# Altium footprint library LNA_1.7GHz.PcbLib: 27 footprints (part 1 of 2)
Each footprint in its own frame and in the unit in brackets; x right, y up, seen from the top. Pads: shape width x height; smd on the part's side, far side on the other; paste and mask are expansions set on the pad; w line width, h text height; cw(c..) or ccw(c..) is an arc to the next point about the centre after c.
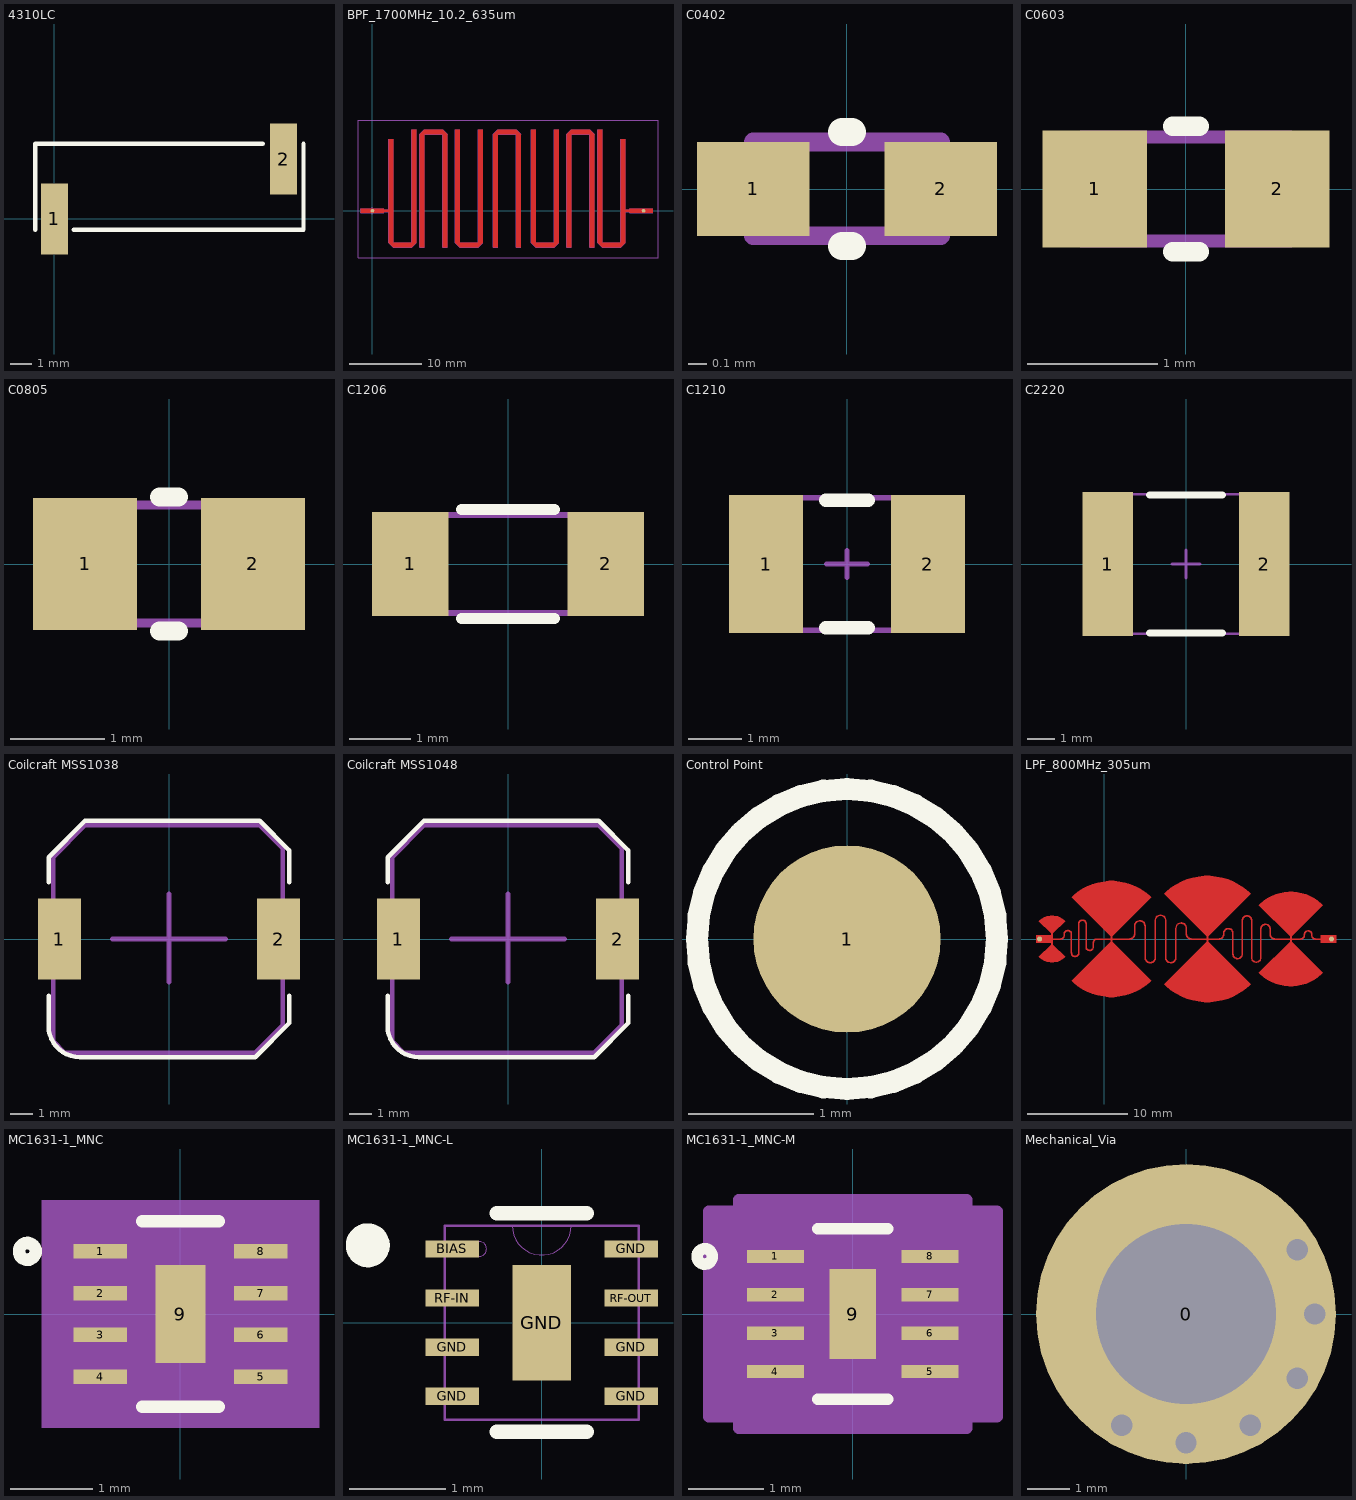
[diagram p0: the footprints below, top view; thin cyan lines are the x and y axes]

## 4310LC [mm] "Coilcraft"
height 3
pads (2):
  rect 1.27x3.3 smd: 1(0,0) 2(10.67,2.79)
Top Overlay:
  lines w0.2: -0.9,-0.5 -0.9,3.5 9.7,3.5 ; 0.9,-0.5 11.6,-0.5 11.6,3.5
3D body "Coilcraft-4310LC-XXX.STEP": height 3.39, standoff 0.01, extent -0.343,-1.1 10.943,3.98

## BPF_1700MHz_10.2_635um [mm] "stripline LPF"
pads (2):
  round 0.5 smd: 1(0,0) 2(37.5,0)
Top Layer:
  region: 35.622,-0.299 35.622,0.299 38.797,0.299 38.797,-0.299
  region: 34.346,-5.085 34.347,-5.085 34.982,-4.45 34.982,-0.16 35.621,-0.16 35.621,0.16 34.982,0.16 34.982,9.868 34.347,9.868 34.346,9.868
  region: 31.172,-4.45 31.807,-5.085 34.347,-5.085 34.982,-4.45
  region: 31.172,-4.45 31.807,-5.085 31.807,11.185 31.172,11.185
  region: 26.858,-5.085 26.859,-5.085 27.494,-5.085 27.494,10.55 30.033,10.55 30.033,-5.085 30.034,-5.085 30.669,-5.085 30.669,10.55 30.034,11.185 27.494,11.185 27.493,11.185 26.858,10.55
  region: 25.125,-5.085 25.125,11.185 25.76,11.185 25.76,-4.45
  region: 21.95,-4.45 22.585,-5.085 25.125,-5.085 25.76,-4.45
  region: 21.95,-4.45 21.95,11.185 22.585,11.185 22.585,-5.085
  region: 16.699,-5.085 16.7,-5.085 17.335,-5.085 17.335,10.55 19.874,10.55 19.874,-5.085 19.875,-5.085 20.51,-5.085 20.51,10.55 19.875,11.185 17.335,11.185 17.334,11.185 16.699,10.55
  region: 14.625,-5.085 14.625,11.185 15.26,11.185 15.26,-4.45
  region: 11.45,-4.45 12.085,-5.085 14.625,-5.085 15.26,-4.45
  region: 11.45,-4.45 11.45,11.185 12.085,11.185 12.085,-5.085
  region: 6.54,-5.085 6.541,-5.085 7.176,-5.085 7.176,10.55 9.715,10.55 9.715,-5.085 9.716,-5.085 10.351,-5.085 10.351,10.55 9.716,11.185 7.176,11.185 7.175,11.185 6.54,10.55
  region: 1.588,-0.16 2.227,-0.16 2.227,-4.45 2.862,-5.085 2.863,-5.085 5.402,-5.085 5.403,-5.085 6.038,-4.45 6.038,11.185 6.037,11.185 6.038,11.185 5.402,11.185 5.402,-4.45 2.863,-4.45 2.863,9.867 2.863,9.868 2.862,9.868 2.863,9.868 2.227,9.868 2.227,9.867 2.227,9.868 2.227,0.16 1.588,0.16
  region: -1.587,-0.299 -1.587,0.299 1.587,0.299 1.587,-0.299
Top Solder:
  region: 0,-5.5 0,11.5 0,11.598 0.038,11.792 0.114,11.974 0.223,12.137 0.363,12.277 0.526,12.386 0.708,12.462 0.902,12.5 1,12.5 36.5,12.5 36.598,12.5 36.792,12.462 36.974,12.386 37.137,12.277 37.277,12.137 37.386,11.974 37.462,11.792 37.5,11.598 37.5,11.5 37.5,-5.5 37.5,-5.598 37.462,-5.792 37.386,-5.974 37.277,-6.137 37.137,-6.277 36.974,-6.386 36.792,-6.462 36.598,-6.5 36.5,-6.5 1,-6.5 0.902,-6.5 0.708,-6.462 0.526,-6.386 0.363,-6.277 0.223,-6.137 0.114,-5.974 0.038,-5.792 0,-5.599
Mechanical 13:
  lines w0: 1.587,-0.16 2.863,-0.16 ; 1.587,0.16 2.863,0.16 ; 2.228,-0.16 2.228,-4.45 ; 2.228,0.16 2.228,9.868 2.863,9.868 2.863,-5.085 ; 5.403,10.55 6.038,10.55 ; 6.541,-4.45 7.176,-4.45 ; 9.716,-4.45 10.351,-4.45 ; 11.45,10.55 12.085,10.55 ; 14.625,10.55 15.26,10.55 ; 16.7,-4.45 17.335,-4.45 ; 19.875,-4.45 20.51,-4.45 ; 21.95,10.55 22.585,10.55 ; 25.125,10.55 25.76,10.55 ; 26.859,-4.45 27.494,-4.45 ; 30.034,-4.45 30.669,-4.45 ; 31.172,10.55 31.807,10.55 ; 34.347,-0.16 35.622,-0.16 ; 34.347,0.16 35.622,0.16 ; 34.982,-0.16 34.982,-4.45 ; 34.982,0.16 34.982,9.868 34.347,9.868 34.347,-5.085 ; 2.228,-4.45 6.038,-4.45 ; 2.228,-4.45 2.863,-5.085 ; 2.863,-5.085 5.403,-5.085 ; 5.403,-5.085 6.038,-4.45 ; 5.403,-5.085 5.403,11.185 6.038,11.185 6.038,-4.45 ; 6.541,10.55 6.541,-5.085 7.176,-5.085 7.176,11.185 ; 6.541,10.55 7.176,11.185 ; 6.541,10.55 10.351,10.55 ; 7.176,11.185 9.716,11.185 ; 9.716,11.185 9.716,-5.085 10.351,-5.085 10.351,10.55 ; 9.716,11.185 10.351,10.55 ; 11.45,-4.45 12.085,-5.085 ; 11.45,-4.45 15.26,-4.45 ; 11.45,-4.45 11.45,11.185 12.085,11.185 12.085,-5.085 ; 12.085,-5.085 14.625,-5.085 ; 14.625,-5.085 15.26,-4.45 ; 14.625,-5.085 14.625,11.185 15.26,11.185 15.26,-4.45 ; 16.7,10.55 16.7,-5.085 17.335,-5.085 17.335,11.185 ; 16.7,10.55 17.335,11.185 ; 16.7,10.55 20.51,10.55 ; 17.335,11.185 19.875,11.185 ; 19.875,11.185 20.51,10.55 ; 19.875,11.185 19.875,-5.085 20.51,-5.085 20.51,10.55 ; 21.95,-4.45 22.585,-5.085 ; 21.95,-4.45 25.76,-4.45 ; 21.95,-4.45 21.95,11.185 22.585,11.185 22.585,-5.085 ; 22.585,-5.085 25.125,-5.085 ; 25.125,-5.085 25.76,-4.45 ; 25.125,-5.085 25.125,11.185 25.76,11.185 25.76,-4.45 ; 26.859,10.55 26.859,-5.085 27.494,-5.085 27.494,11.185 ; 26.859,10.55 27.494,11.185 ; 26.859,10.55 30.669,10.55 ; 27.494,11.185 30.034,11.185 ; 30.034,11.185 30.034,-5.085 30.669,-5.085 30.669,10.55 ; 30.034,11.185 30.669,10.55 ; 31.172,-4.45 31.807,-5.085 ; 31.172,-4.45 34.982,-4.45 ; 31.172,-4.45 31.172,11.185 31.807,11.185 31.807,-5.085 ; 31.807,-5.085 34.347,-5.085 ; 34.347,-5.085 34.982,-4.45 ; -1.587,-0.299 -1.587,0.299 1.587,0.299 1.587,-0.299 -1.587,-0.299 ; 35.622,-0.299 38.797,-0.299 38.797,0.299 35.622,0.299 35.622,-0.299
Mechanical 15:
  lines w0.1: -2,-6.5 39.5,-6.5 39.5,12.5 -2,12.5 -2,-6.5
  lines w0.15: -0.75,0 0.75,0 ; 0,-0.5 0,0.5

## C0402 [mm] "Chip Capacitor, Body 1.0x0.5mm, IPC High Density"
height 1.3
pads (2):
  rect 0.6x0.5 smd: 1(-0.5,0) 2(0.5,0)
Top Overlay:
  lines w0.15: -0.025,-0.305 0.025,-0.305 ; -0.025,0.305 0.025,0.305
Mechanical 1:
  lines w0.1: -0.5,-0.25 -0.5,0.25 0.5,0.25 0.5,-0.25 -0.5,-0.25
3D body "0402-SMD CAPACITOR.step": height 0.49, standoff -0.01, extent -0.5,-0.25 0.5,0.25

## C0603 [mm] "Chip Capacitor, Body 1.6x0.8mm, IPC High Density"
height 1.3
pads (2):
  rect 0.8x0.9 smd: 1(-0.7,0) 2(0.7,0)
Top Overlay:
  lines w0.15: -0.102,-0.483 0.102,-0.483 ; -0.102,0.483 0.102,0.483
Mechanical 1:
  lines w0.1: -0.8,-0.4 0.8,-0.4 0.8,0.4 -0.8,0.4 -0.8,-0.4
3D body "0603-SMD CAPACITOR.step": height 0.79, standoff -0.01, extent -0.8,-0.4 0.8,0.4

## C0805 [mm] "Chip Capacitor, Body 2.0x1.3mm, IPC High Density"
height 1.4
pads (2):
  rect 1.1x1.4 smd: 1(-0.889,0) 2(0.889,0)
Top Overlay:
  lines w0.2: -0.102,-0.711 0.102,-0.711 ; -0.102,0.711 0.102,0.711
Mechanical 1:
  lines w0.1: -1,-0.625 -1,0.625 1,0.625 1,-0.625 -1,-0.625
3D body "0805-SMD CAPACITOR.step": height 0.59, standoff -0.01, extent -1,-0.625 1,0.625

## C1206 [mm]
height 0.5
pads (2):
  rect 1.25x1.7 smd: 1(-1.6,0) 2(1.6,0)
Top Overlay:
  lines w0.178: -0.762,-0.889 0.762,-0.889 ; -0.762,0.889 0.762,0.889
Mechanical 1:
  lines w0.1: -1.6,-0.8 1.6,-0.8 1.6,0.8 -1.6,0.8 -1.6,-0.8
3D body "1206_SMD CAPACITOR.step": height 0.77, standoff -0.01, extent -1.6,-0.8 1.6,0.8

## C1210 [mm] "Chip Capacitor, Body 3.2x2.5mm, IPC High Density"
height 1.3
pads (2):
  rect 1.4x2.6 smd: 1(-1.524,0) 2(1.524,0)
Top Overlay:
  lines w0.254: -0.4,-1.2 0.4,-1.2 ; -0.4,1.2 0.4,1.2
Mechanical 1:
  lines w0.1: -0.381,0 0.381,0 ; 0,-0.254 0,0.254 ; -1.6,-1.25 1.6,-1.25 1.6,1.25 -1.6,1.25 -1.6,-1.25
3D body "1210-SMD CAPACITOR.step": height 0.77, standoff -0.01, extent -1.6,-1.25 1.6,1.25

## C2220 [mm] "Chip Capacitor"
height 2.5
pads (2):
  rect 1.8x5.15 smd: 1(-2.8,0) 2(2.8,0)
Top Overlay:
  lines w0.254: -1.3,-2.475 1.3,-2.475 ; -1.3,2.475 1.3,2.475
Mechanical 1:
  lines w0.1: -0.5,0 0.5,0 ; 0,-0.5 0,0.5 ; -2.8,-2.5 -2.8,2.5 2.8,2.5 2.8,-2.5 -2.8,-2.5
3D body "User Library-SMD CAPACITOR_2220.step": height 1, standoff 0, extent -2.8,-2.5 2.8,2.5

## Coilcraft MSS1038 [mm]
height 3.8
pads (2):
  rect 1.905x3.56 smd: 1(-4.826,0) 2(4.826,0)
Top Overlay:
  lines w0.2: -5.3,-2.5 -5.3,-3.837 ccw(c-3.937,-3.837) -3.937,-5.2 3.8,-5.2 5.3,-3.7 5.3,-2.5 ; -5.3,2.5 -5.3,3.6 -3.7,5.2 4,5.2 5.3,3.9 5.3,2.5
Mechanical 1:
  lines w0.2: -2.5,0 2.5,0 ; 0,-1.9 0,2 ; -5.1,-4.5 -5.1,3.6 -3.7,5 4,5 5,4 5,-3.8 3.8,-5 -4.6,-5 -5.1,-4.5
3D body "User Library-MSS1038.step": height 3.8, standoff -0.01, extent -5.105,-5 5.105,5

## Coilcraft MSS1048 [mm]
height 4.8
pads (2):
  rect 1.905x3.56 smd: 1(-4.826,0) 2(4.826,0)
Top Overlay:
  lines w0.2: -5.3,-2.5 -5.3,-3.837 ccw(c-3.937,-3.837) -3.937,-5.2 3.8,-5.2 5.3,-3.7 5.3,-2.5 ; -5.3,2.5 -5.3,3.6 -3.7,5.2 4,5.2 5.3,3.9 5.3,2.5
Mechanical 1:
  lines w0.2: -2.5,0 2.5,0 ; 0,-1.9 0,2 ; -5.1,-4.5 -4.6,-5 3.8,-5 5,-3.8 5,4 4,5 -3.7,5 -5.1,3.6 -5.1,-4.5
3D body "Coilcraft-MSS1048.step": height 5.08, standoff -0.02, extent -5.15,-5.1 5.15,5.1

## Control Point [mm]
pads (1):
  round 1.5 smd: 1(0,0)
Top Overlay:
  circle w0.178: c0,0 r1.2

## LPF_800MHz_305um [mm] "stripline LPF"
pads (2):
  round 0.5 smd: IN(-6.4,0) OUT(22.606,0)
Top Layer:
  region: -6.757,-0.355 -5.232,-0.355 -5.232,0.355 -6.757,0.355
  region: -5.232,-0.562 -5.234,-0.562 -5.236,-0.561 -5.238,-0.559 -5.239,-0.557 -5.239,-0.555 -5.239,0.555 -5.239,0.557 -5.238,0.559 -5.236,0.561 -5.234,0.562 -5.232,0.562 -5.08,0.562 -5.079,0.562 -5.076,0.561 -5.074,0.559 -5.073,0.557 -5.073,0.555 -5.073,-0.555 -5.073,-0.557 -5.074,-0.559 -5.076,-0.561 -5.079,-0.562 -5.08,-0.562
  region: -5.232,0.555 -6.459,1.782 -6.331,1.911 -6.029,2.112 -5.694,2.251 -5.338,2.322 -5.156,2.322 -4.975,2.322 -4.619,2.251 -4.283,2.112 -3.981,1.911 -3.853,1.782 -5.08,0.555
  region: -6.459,-1.782 -6.331,-1.911 -6.029,-2.112 -5.694,-2.251 -5.338,-2.322 -5.156,-2.322 -4.975,-2.322 -4.619,-2.251 -4.283,-2.112 -3.981,-1.911 -3.853,-1.782 -5.08,-0.555 -5.232,-0.555
  region: 0.658,-0.262 0.658,0.262 0.811,0.262 0.811,-0.262
  region: -3.212,-4.133 -3.018,-4.326 -2.594,-4.674 -2.138,-4.979 -1.655,-5.237 -1.148,-5.447 -0.623,-5.607 -0.086,-5.714 0.46,-5.767 0.734,-5.767 1.008,-5.767 1.554,-5.714 2.092,-5.607 2.617,-5.447 3.123,-5.237 3.607,-4.979 4.063,-4.674 4.487,-4.326 4.681,-4.133 0.811,-0.262 0.658,-0.262
  region: 0.658,0.262 -3.212,4.133 -3.018,4.326 -2.594,4.674 -2.138,4.979 -1.655,5.237 -1.148,5.447 -0.623,5.607 -0.086,5.714 0.46,5.767 0.734,5.767 1.008,5.767 1.554,5.714 2.092,5.607 2.617,5.447 3.123,5.237 3.607,4.979 4.063,4.674 4.487,4.326 4.681,4.133 0.811,0.262
  region: 10.201,-0.262 10.354,-0.262 10.354,0.262 10.201,0.262
  region: 5.977,4.487 10.201,0.262 10.354,0.262 14.578,4.487 14.367,4.698 13.905,5.077 13.408,5.409 12.881,5.691 12.329,5.92 11.757,6.093 11.171,6.21 10.576,6.268 10.278,6.268 9.979,6.268 9.384,6.21 8.798,6.093 8.226,5.92 7.674,5.691 7.147,5.409 6.65,5.077 6.188,4.698
  region: 5.977,-4.487 6.188,-4.698 6.65,-5.077 7.147,-5.409 7.674,-5.691 8.226,-5.92 8.798,-6.093 9.384,-6.21 9.979,-6.268 10.278,-6.268 10.576,-6.268 11.171,-6.21 11.757,-6.093 12.329,-5.92 12.881,-5.691 13.408,-5.409 13.905,-5.077 14.367,-4.698 14.578,-4.487 10.354,-0.262 10.201,-0.262
  region: 18.486,-0.262 18.486,0.262 18.638,0.262 18.638,-0.262
  region: 15.379,-3.369 15.536,-3.525 15.878,-3.806 16.245,-4.052 16.635,-4.26 17.044,-4.429 17.467,-4.558 17.901,-4.644 18.341,-4.687 18.562,-4.687 18.783,-4.687 19.223,-4.644 19.657,-4.558 20.08,-4.429 20.489,-4.26 20.879,-4.052 21.247,-3.806 21.588,-3.525 21.745,-3.369 18.638,-0.262 18.486,-0.262
  region: 15.379,3.369 18.486,0.262 18.638,0.262 21.745,3.369 21.588,3.525 21.247,3.806 20.879,4.052 20.489,4.26 20.08,4.429 19.657,4.558 19.223,4.644 18.783,4.687 18.562,4.687 18.341,4.687 17.901,4.644 17.467,4.558 17.044,4.429 16.635,4.26 16.245,4.052 15.878,3.806 15.536,3.525
  region: 21.528,-0.355 21.528,0.355 23.053,0.355 23.053,-0.355
  lines w0.125: -5.08,0 -4.318,0 ccw(c-4.318,0.362) -3.956,0.362 -3.956,0.486 cw(c-3.593,0.486) -3.593,0.848 ; 0.658,0 0,0 -0.693,0 ccw(c-0.693,-0.362) -1.056,-0.362 -1.056,-0.782 cw(c-1.418,-0.782) -1.418,-1.145 ; 0.811,0 2.54,0 ccw(c2.54,0.512) 3.052,0.512 3.052,1.299 cw(c3.565,1.299) 3.565,1.812 ; 10.201,0 9.652,0 8.69,0 cw(c8.69,0.513) 8.177,0.513 8.177,1.081 ccw(c7.665,1.081) 7.665,1.594 ; 10.354,0 11.43,0 ccw(c11.43,0.462) 11.892,0.462 11.892,0.57 cw(c12.355,0.57) 12.355,1.033 ; 18.486,0 17.78,0 16.98,0 cw(c16.98,0.462) 16.517,0.462 16.517,1 ccw(c16.055,1) 16.055,1.462 ; 18.638,0 19.558,0 ccw(c19.558,0.362) 19.92,0.362 19.92,0.449 cw(c20.283,0.449) 20.283,0.811 ; 21.528,0 21.336,0 21.008,0 cw(c21.008,0.362) 20.645,0.362 20.645,0.449 ccw(c20.283,0.449) 20.283,0.811 ; -3.593,0.848 cw(c-3.593,0.486) -3.231,0.486 -3.231,0 -3.231,-1.379 ccw(c-2.868,-1.379) -2.868,-1.741 ; -3.593,0.848 -3.593,0.848 ; -3.593,0.848 -3.593,0.848 ; -2.868,-1.741 ccw(c-2.868,-1.379) -2.506,-1.379 -2.506,0 -2.506,1.507 cw(c-2.143,1.507) -2.143,1.87 ; -2.868,-1.741 -2.868,-1.741 ; -2.868,-1.741 -2.868,-1.741 ; -2.143,1.87 cw(c-2.143,1.507) -1.781,1.507 -1.781,0 -1.781,-0.782 ccw(c-1.418,-0.782) -1.418,-1.145 ; -2.143,1.87 -2.143,1.87 ; -2.143,1.87 -2.143,1.87 ; -1.418,-1.145 -1.418,-1.145 ; -1.418,-1.145 -1.418,-1.145 ; 3.565,1.812 cw(c3.565,1.299) 4.077,1.299 4.077,0 4.077,-1.84 ccw(c4.59,-1.84) 4.59,-2.353 ; 3.565,1.812 3.565,1.812 ; 3.565,1.812 3.565,1.812 ; 4.59,-2.353 ccw(c4.59,-1.84) 5.102,-1.84 5.102,0 5.102,1.84 cw(c5.615,1.84) 5.615,2.353 ; 4.59,-2.353 4.59,-2.353 ; 4.59,-2.353 4.59,-2.353 ; 5.615,2.353 cw(c5.615,1.84) 6.127,1.84 6.127,0 6.127,-1.84 ccw(c6.64,-1.84) 6.64,-2.353 ; 5.615,2.353 5.615,2.353 ; 5.615,2.353 5.615,2.353 ; 6.64,-2.353 ccw(c6.64,-1.84) 7.152,-1.84 7.152,0 7.152,1.081 cw(c7.665,1.081) 7.665,1.594 ; 6.64,-2.353 6.64,-2.353 ; 6.64,-2.353 6.64,-2.353 ; 7.665,1.594 7.665,1.594 ; 7.665,1.594 7.665,1.594 ; 12.355,1.033 cw(c12.355,0.57) 12.817,0.57 12.817,0 12.817,-1.495 ccw(c13.28,-1.495) 13.28,-1.958 ; 12.355,1.033 12.355,1.033 ; 12.355,1.033 12.355,1.033 ; 13.28,-1.958 ccw(c13.28,-1.495) 13.742,-1.495 13.742,0 13.742,1.844 cw(c14.205,1.844) 14.205,2.306 ; 13.28,-1.958 13.28,-1.958 ; 13.28,-1.958 13.28,-1.958 ; 14.205,2.306 cw(c14.205,1.844) 14.667,1.844 14.667,0 14.667,-1.844 ccw(c15.13,-1.844) 15.13,-2.306 ; 14.205,2.306 14.205,2.306 ; 14.205,2.306 14.205,2.306 ; 15.13,-2.306 ccw(c15.13,-1.844) 15.592,-1.844 15.592,0 15.592,1 cw(c16.055,1) 16.055,1.462 ; 15.13,-2.306 15.13,-2.306 ; 15.13,-2.306 15.13,-2.306 ; 16.055,1.462 16.055,1.462 ; 16.055,1.462 16.055,1.462 ; 20.283,0.811 20.283,0.811 ; 20.283,0.811 20.283,0.811

## MC1631-1_MNC [mil]
pads (9):
  rect 25.81x7.03 smd paste+0 mask+0: 1(-38.41,30) 2(-38.41,10) 3(-38.41,-10) 4(-38.41,-30) 5(38.41,-30) 6(38.41,-10) 7(38.41,10) 8(38.41,30)
  rect 24x47 smd paste+0 mask+0: 9(0,0)
Top Overlay:
  circle w6: c-73.31,30 r4
  lines w6: -18.36,-44.5 18.36,-44.5 ; -18.36,44.5 18.36,44.5
Mechanical 5:
  region: 66.31,-54.5 -66.31,-54.5 -66.31,54.5 66.31,54.5
Mechanical 13:
  circle w0: c-25.5,30 r3
  lines w0: -12,39.5 ccw(c0,39.5) 12,39.5
  lines w1: -39.5,-39.5 39.5,-39.5 39.5,39.5 -39.5,39.5 -39.5,-39.5
Mechanical 15:
  region: -49.5,-43.52 -61.31,-43.52 -61.31,43.52 -49.5,43.52 -49.5,49.5 49.5,49.5 49.5,43.52 61.31,43.52 61.31,-43.52 49.5,-43.52 49.5,-49.5 -49.5,-49.5
  lines w6: -61.31,-43.52 -61.31,43.52 -49.5,43.52 -49.5,49.5 49.5,49.5 49.5,43.52 61.31,43.52 61.31,-43.52 49.5,-43.52 49.5,-49.5 -49.5,-49.5 -49.5,-43.52 -61.31,-43.52
3D body "MC1631-1_MNC.step": height 41.1, standoff 0, extent -39.49,-39.49 39.49,39.49

## MC1631-1_MNC-L [mil]
pads (9):
  rect 21.87x7.03 smd paste+0 mask+0: BIAS(-36.44,30) GND(-36.44,-30) GND(-36.44,-10) GND(36.44,-30) GND(36.44,-10) GND(36.44,30) RF-IN(-36.44,10) RF-OUT(36.44,10)
  rect 24x47 smd paste+0 mask+0: GND(0,0)
Top Overlay:
  circle w9.92: c-70.87,31.5 r4
  lines w6: -18.36,-44.5 18.36,-44.5 ; -18.36,44.5 18.36,44.5
Mechanical 13:
  circle w0: c-25.5,30 r3
  lines w0: -12,39.5 ccw(c0,39.5) 12,39.5
  lines w1: -39.5,-39.5 39.5,-39.5 39.5,39.5 -39.5,39.5 -39.5,-39.5
3D body "MC1631-1_MNC.step": height 41.1, standoff 0, extent -39.49,-39.49 39.49,39.49

## MC1631-1_MNC-M [mil]
pads (9):
  rect 29.75x7.03 smd paste+0 mask+0: 1(-40.37,30) 2(-40.37,10) 3(-40.37,-10) 4(-40.37,-30) 5(40.37,-30) 6(40.37,-10) 7(40.37,10) 8(40.37,30)
  rect 24x47 smd paste+0 mask+0: 9(0,0)
Top Overlay:
  circle w6: c-77.25,30 r4
  lines w6: -18.36,-44.5 18.36,-44.5 ; -18.36,44.5 18.36,44.5
Mechanical 5:
  region: 70.25,-54.5 -70.25,-54.5 -70.25,54.5 70.25,54.5
Mechanical 13:
  circle w0: c-25.5,30 r3
  lines w0: -12,39.5 ccw(c0,39.5) 12,39.5
  lines w1: -39.5,-39.5 39.5,-39.5 39.5,39.5 -39.5,39.5 -39.5,-39.5
Mechanical 15:
  region: -59.5,-53.52 -75.25,-53.52 -75.25,53.52 -59.5,53.52 -59.5,59.5 59.5,59.5 59.5,53.52 75.25,53.52 75.25,-53.52 59.5,-53.52 59.5,-59.5 -59.5,-59.5
  lines w6: -75.25,-53.52 -75.25,53.52 -59.5,53.52 -59.5,59.5 59.5,59.5 59.5,53.52 75.25,53.52 75.25,-53.52 59.5,-53.52 59.5,-59.5 -59.5,-59.5 -59.5,-53.52 -75.25,-53.52
3D body "MC1631-1_MNC.step": height 41.1, standoff 0, extent -39.49,-39.49 39.49,39.49

## Mechanical_Via [mm] "Mechanical_Via"
pads (1):
  round 7 hole 4.2: 0(0,0)
via 0,-3 diameter 1 hole 0.5
via 3,0 diameter 1 hole 0.5
via -1.5,-2.598 diameter 1 hole 0.5
via 2.598,1.5 diameter 1 hole 0.5
via 2.598,-1.5 diameter 1 hole 0.5
via 1.5,-2.598 diameter 1 hole 0.5